# Altium schematic symbol library SIM-3031_SMN-303.schdoc.SCHLIB: 1 symbol
Pins are listed as number, name and electrical type; pins without a type are passive.

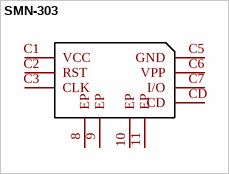
[diagram p0: symbol SMN-303]

## SMN-303
designator CARD??  (value not drawn)
Add into BOM: yes; Body Height (Max): 1.37mm; Symbol: SMN-303; Device: SMN-303; Supplier: LCSC; Supplier Part: C266888; Manufacturer Part: SMN-303; JLCPCB Part Class: Extended Part; Supplier Footprint: SMD; Datasheet: https://atta.szlcsc.com/upload/public/pdf/source/20230608/69FA23A73293DEADC31E393DD83871F4.pdf; Convert to PCB: yes; Contact Material: C5191
footprint SIM-SMD_SMN-303
pins: 8 EP, 9 EP, 10 EP, 11 EP, C1 VCC, C2 RST, C3 CLK, C5 GND, C6 VPP, C7 I/O, CD